# EAGLE library part M06 (library Hirose)
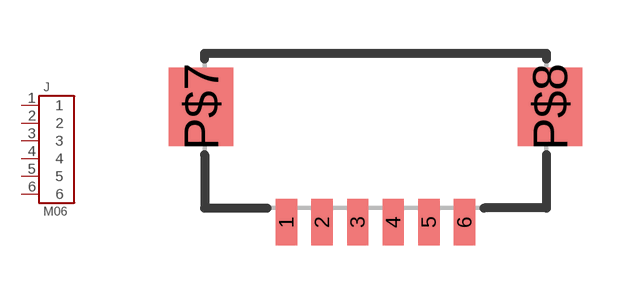
[diagram p0: symbol with the pads of FH12-6S-1SH(55); footprint FH12-6S-1SH(55)]

Designator prefix J

## M06-HIROSE_FH12  [FH12-6S-1SH(55)]
1  1
2  2
3  3
4  4
5  5
6  6

## Footprint FH12-6S-1SH(55) (pad centres in mm)
smd 0.6 x 1.3: 1 -2.5,0; 2 -1.5,0; 3 -0.5,0; 4 0.5,0; 5 1.5,0; 6 2.5,0
smd 1.8 x 2.2: P$7 -4.9,3.25; P$8 4.9,3.25